# Altium footprint library Connector_Hirose.PcbLib: 136 footprints (part 9 of 9)
Each footprint in its own frame and in the unit in brackets; x right, y up, seen from the top. Pads: shape width x height; smd on the part's side, far side on the other; paste and mask are expansions set on the pad; w line width, h text height; cw(c..) or ccw(c..) is an arc to the next point about the centre after c.
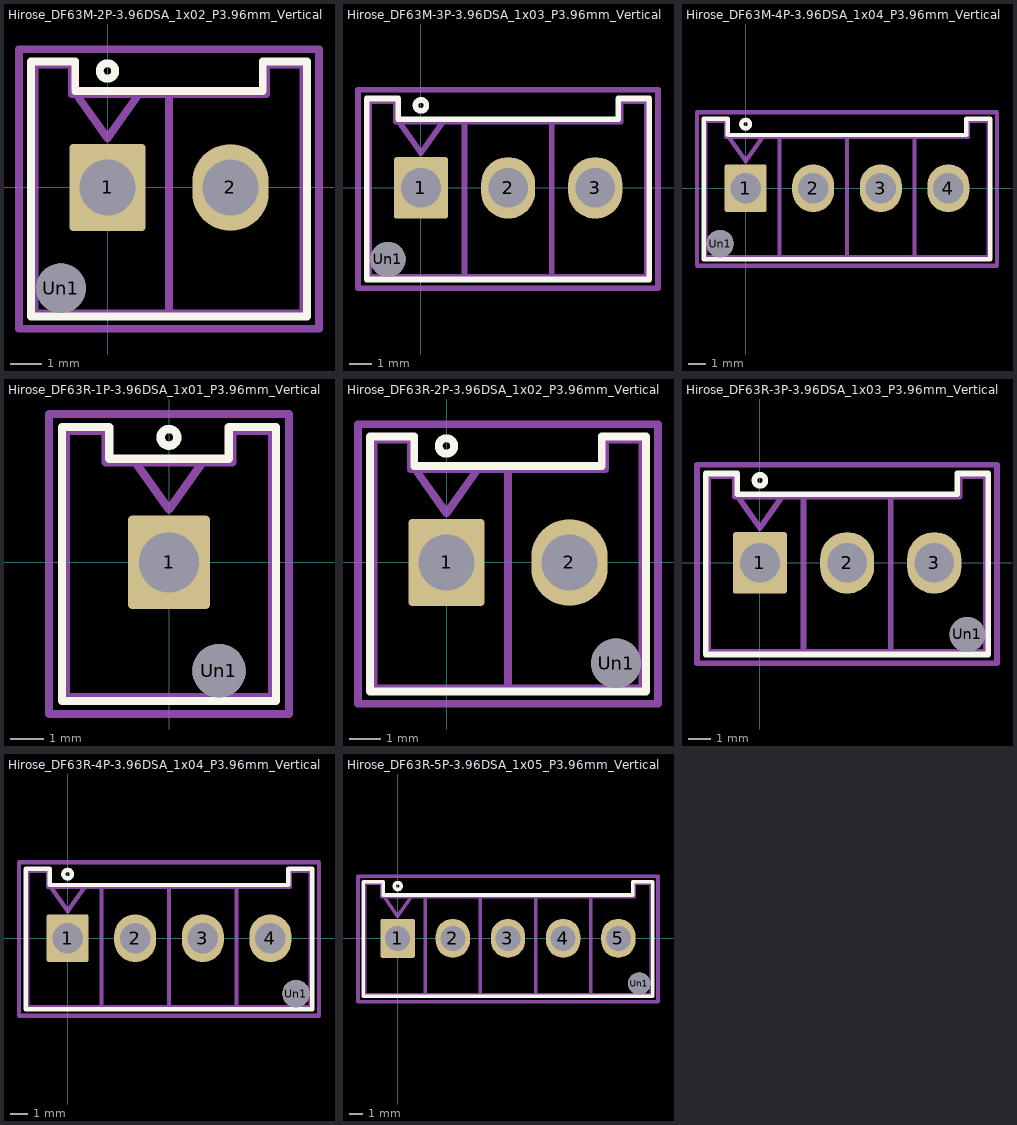
[diagram p8: the footprints below, top view; thin cyan lines are the x and y axes]

## Hirose_DF63M-2P-3.96DSA_1x02_P3.96mm_Vertical [mm]
pads (3):
  rrect10% 2.46x2.8 hole 1.8: 1(0,0)
  rrect100% 2.46x2.8 hole 1.8: 2(3.96,0)
  round 1.6 hole 1.6: Un1(-1.5,-3.25)
F.SilkS:
  circle w0.254: c0,3.75 r0.25
  lines w0.254: -2.46,-4.16 1.98,-4.16 6.42,-4.16 6.42,4.06 5,4.06 5,3.11 1.98,3.11 -1.04,3.11 -1.04,4.06 -2.46,4.06 -2.46,-4.16
Top Assembly:
  lines w0.254: -1,3 0,1.586 1,3 ; 1.98,-4.05 6.31,-4.05 6.31,3.95 5.11,3.95 5.11,3 1.98,3 ; 1.98,-4.05 -2.35,-4.05 -2.35,3.95 -1.15,3.95 -1.15,3 1.98,3 ; 1.98,-4.05 1.98,3
  text "'.Designator'" at -2.067,2.91 h1
Top Courtyard:
  lines w0.254: -2.85,-4.55 6.81,-4.55 6.81,4.45 -2.85,4.45 -2.85,-4.55
Top Designator:
  text ".Designator" at -5.638,-0.558 h1.52

## Hirose_DF63M-3P-3.96DSA_1x03_P3.96mm_Vertical [mm]
pads (4):
  rrect10% 2.46x2.8 hole 1.8: 1(0,0)
  rrect100% 2.46x2.8 hole 1.8: 2(3.96,0) 3(7.92,0)
  round 1.6 hole 1.6: Un1(-1.5,-3.25)
F.SilkS:
  circle w0.254: c0,3.75 r0.25
  lines w0.254: -2.46,-4.16 3.96,-4.16 10.38,-4.16 10.38,4.06 8.96,4.06 8.96,3.11 3.96,3.11 -1.04,3.11 -1.04,4.06 -2.46,4.06 -2.46,-4.16
Top Assembly:
  lines w0.254: -1,3 0,1.586 1,3 ; 1.98,-4.05 1.98,3 ; 5.94,-4.05 5.94,3 ; -2.35,-4.05 3.96,-4.05 10.27,-4.05 10.27,3.95 9.07,3.95 9.07,3 3.96,3 -1.15,3 -1.15,3.95 -2.35,3.95 -2.35,-4.05
  text "'.Designator'" at -0.087,2.91 h1
Top Courtyard:
  lines w0.254: -2.86,-4.55 10.77,-4.55 10.77,4.45 -2.86,4.45 -2.86,-4.55
Top Designator:
  text ".Designator" at -3.663,-0.558 h1.52

## Hirose_DF63M-4P-3.96DSA_1x04_P3.96mm_Vertical [mm]
pads (5):
  rrect10% 2.46x2.8 hole 1.8: 1(0,0)
  rrect100% 2.46x2.8 hole 1.8: 2(3.96,0) 3(7.92,0) 4(11.88,0)
  round 1.6 hole 1.6: Un1(-1.5,-3.25)
F.SilkS:
  circle w0.254: c0,3.75 r0.25
  lines w0.254: -2.46,-4.16 5.94,-4.16 14.34,-4.16 14.34,4.06 12.92,4.06 12.92,3.11 5.94,3.11 -1.04,3.11 -1.04,4.06 -2.46,4.06 -2.46,-4.16
Top Assembly:
  lines w0.254: -1,3 0,1.586 1,3 ; 1.98,-4.05 1.98,3 ; 9.9,-4.05 9.9,3 ; 5.94,-4.05 14.23,-4.05 14.23,3.95 13.03,3.95 13.03,3 5.94,3 ; 5.94,-4.05 -2.35,-4.05 -2.35,3.95 -1.15,3.95 -1.15,3 5.94,3 ; 5.94,-4.05 5.94,3
  text "'.Designator'" at 1.893,2.91 h1
Top Courtyard:
  lines w0.254: -2.85,-4.55 14.73,-4.55 14.73,4.45 -2.85,4.45 -2.85,-4.55
Top Designator:
  text ".Designator" at -1.678,-0.558 h1.52

## Hirose_DF63R-1P-3.96DSA_1x01_P3.96mm_Vertical [mm]
pads (2):
  rrect10% 2.46x2.8 hole 1.8: 1(0,0)
  round 1.6 hole 1.6: Un1(1.5,-3.25)
F.SilkS:
  circle w0.254: c0,3.75 r0.25
  lines w0.254: -3.21,-4.16 0,-4.16 3.21,-4.16 3.21,4.06 1.79,4.06 1.79,3.11 0,3.11 -1.79,3.11 -1.79,4.06 -3.21,4.06 -3.21,-4.16
Top Assembly:
  lines w0.254: -1,3 0,1.586 1,3 ; -3.1,-4.05 0,-4.05 3.1,-4.05 3.1,3.95 1.9,3.95 1.9,3 0,3 -1.9,3 -1.9,3.95 -3.1,3.95 -3.1,-4.05
  text "'.Designator'" at -4.047,2.91 h1
Top Courtyard:
  lines w0.254: -3.6,-4.55 3.6,-4.55 3.6,4.45 -3.6,4.45 -3.6,-4.55
Top Designator:
  text ".Designator" at -7.768,-0.558 h1.52

## Hirose_DF63R-2P-3.96DSA_1x02_P3.96mm_Vertical [mm]
pads (3):
  rrect10% 2.46x2.8 hole 1.8: 1(0,0)
  rrect100% 2.46x2.8 hole 1.8: 2(3.96,0)
  round 1.6 hole 1.6: Un1(5.46,-3.25)
F.SilkS:
  circle w0.254: c0,3.75 r0.25
  lines w0.254: -2.46,-4.16 1.98,-4.16 6.42,-4.16 6.42,4.06 5,4.06 5,3.11 1.98,3.11 -1.04,3.11 -1.04,4.06 -2.46,4.06 -2.46,-4.16
Top Assembly:
  lines w0.254: -1,3 0,1.586 1,3 ; 1.98,-4.05 6.31,-4.05 6.31,3.95 5.11,3.95 5.11,3 1.98,3 ; 1.98,-4.05 -2.35,-4.05 -2.35,3.95 -1.15,3.95 -1.15,3 1.98,3 ; 1.98,-4.05 1.98,3
  text "'.Designator'" at -2.067,2.91 h1
Top Courtyard:
  lines w0.254: -2.85,-4.55 6.81,-4.55 6.81,4.45 -2.85,4.45 -2.85,-4.55
Top Designator:
  text ".Designator" at -5.638,-0.558 h1.52

## Hirose_DF63R-3P-3.96DSA_1x03_P3.96mm_Vertical [mm]
pads (4):
  rrect10% 2.46x2.8 hole 1.8: 1(0,0)
  rrect100% 2.46x2.8 hole 1.8: 2(3.96,0) 3(7.92,0)
  round 1.6 hole 1.6: Un1(9.42,-3.25)
F.SilkS:
  circle w0.254: c0,3.75 r0.25
  lines w0.254: -2.46,-4.16 3.96,-4.16 10.38,-4.16 10.38,4.06 8.96,4.06 8.96,3.11 3.96,3.11 -1.04,3.11 -1.04,4.06 -2.46,4.06 -2.46,-4.16
Top Assembly:
  lines w0.254: -1,3 0,1.586 1,3 ; 1.98,-4.05 1.98,3 ; 5.94,-4.05 5.94,3 ; -2.35,-4.05 3.96,-4.05 10.27,-4.05 10.27,3.95 9.07,3.95 9.07,3 3.96,3 -1.15,3 -1.15,3.95 -2.35,3.95 -2.35,-4.05
  text "'.Designator'" at -0.087,2.91 h1
Top Courtyard:
  lines w0.254: -2.86,-4.55 10.77,-4.55 10.77,4.45 -2.86,4.45 -2.86,-4.55
Top Designator:
  text ".Designator" at -3.663,-0.558 h1.52

## Hirose_DF63R-4P-3.96DSA_1x04_P3.96mm_Vertical [mm]
pads (5):
  rrect10% 2.46x2.8 hole 1.8: 1(0,0)
  rrect100% 2.46x2.8 hole 1.8: 2(3.96,0) 3(7.92,0) 4(11.88,0)
  round 1.6 hole 1.6: Un1(13.38,-3.25)
F.SilkS:
  circle w0.254: c0,3.75 r0.25
  lines w0.254: -2.46,-4.16 5.94,-4.16 14.34,-4.16 14.34,4.06 12.92,4.06 12.92,3.11 5.94,3.11 -1.04,3.11 -1.04,4.06 -2.46,4.06 -2.46,-4.16
Top Assembly:
  lines w0.254: -1,3 0,1.586 1,3 ; 1.98,-4.05 1.98,3 ; 9.9,-4.05 9.9,3 ; 5.94,-4.05 14.23,-4.05 14.23,3.95 13.03,3.95 13.03,3 5.94,3 ; 5.94,-4.05 -2.35,-4.05 -2.35,3.95 -1.15,3.95 -1.15,3 5.94,3 ; 5.94,-4.05 5.94,3
  text "'.Designator'" at 1.893,2.91 h1
Top Courtyard:
  lines w0.254: -2.85,-4.55 14.73,-4.55 14.73,4.45 -2.85,4.45 -2.85,-4.55
Top Designator:
  text ".Designator" at -1.678,-0.558 h1.52

## Hirose_DF63R-5P-3.96DSA_1x05_P3.96mm_Vertical [mm]
pads (6):
  rrect10% 2.46x2.8 hole 1.8: 1(0,0)
  rrect100% 2.46x2.8 hole 1.8: 2(3.96,0) 3(7.92,0) 4(11.88,0) 5(15.84,0)
  round 1.6 hole 1.6: Un1(17.34,-3.25)
F.SilkS:
  circle w0.254: c0,3.75 r0.25
  lines w0.254: -2.46,-4.16 7.92,-4.16 18.3,-4.16 18.3,4.06 16.88,4.06 16.88,3.11 7.92,3.11 -1.04,3.11 -1.04,4.06 -2.46,4.06 -2.46,-4.16
Top Assembly:
  lines w0.254: -1,3 0,1.586 1,3 ; 1.98,-4.05 1.98,3 ; 5.94,-4.05 5.94,3 ; 9.9,-4.05 9.9,3 ; 13.86,-4.05 13.86,3 ; -2.35,-4.05 7.92,-4.05 18.19,-4.05 18.19,3.95 16.99,3.95 16.99,3 7.92,3 -1.15,3 -1.15,3.95 -2.35,3.95 -2.35,-4.05
  text "'.Designator'" at 3.873,2.91 h1
Top Courtyard:
  lines w0.254: -2.85,-4.55 18.69,-4.55 18.69,4.45 -2.85,4.45 -2.85,-4.55
Top Designator:
  text ".Designator" at 0.302,-0.558 h1.52